# Altium schematic symbol library BY_Schlib1.SchLib: 21 symbols
Pins are listed as number, name and electrical type; pins without a type are passive.

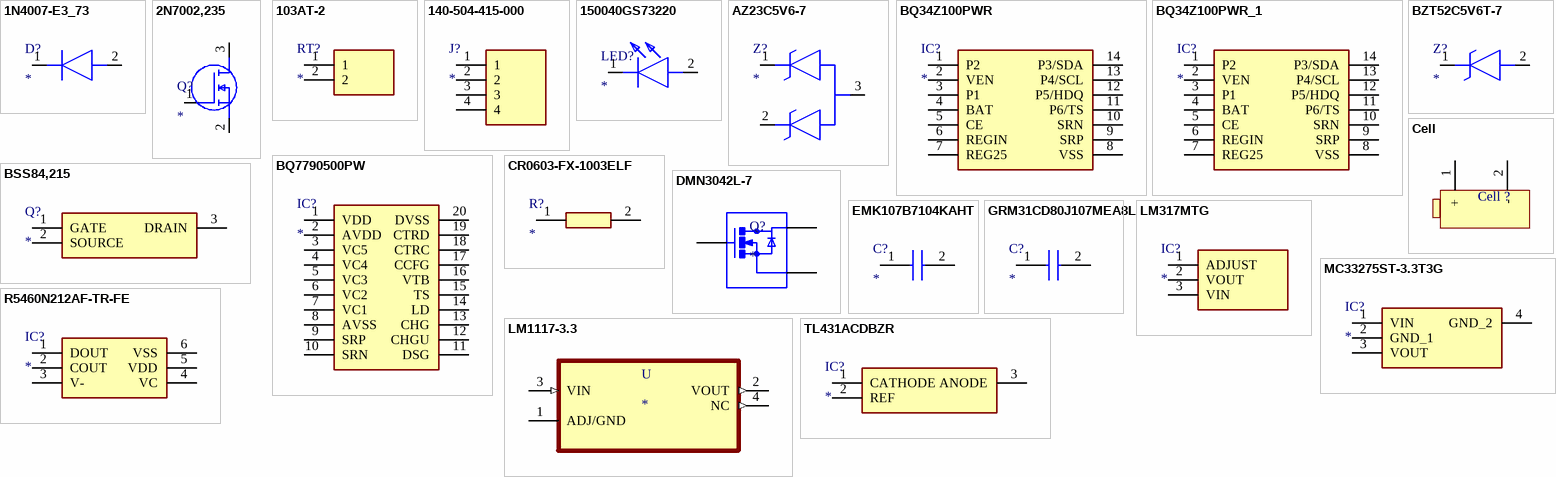
[diagram p0: symbols 1N4007-E3_73 to TL431ACDBZR]

## 1N4007-E3_73
designator D?
Diode; Manufacturer_Name: Vishay; Manufacturer_Part_Number: 1N4007-E3/73; Datasheet Link: https://mouser.componentsearchengine.com/Datasheets/2/1N4007-E3_73.pdf; Mouser Part Number: 625-1N4007-E3/73; Mouser Price/Stock: https://www.mouser.co.uk/ProductDetail/Vishay-General-Semiconductor/1N4007-E3-73?qs=N4vtoAxH%2FSqT3Ng3e4K0Gw%3D%3D; Arrow Part Number: 1N4007-E3/73; Arrow Price/Stock: https://www.arrow.com/en/products/1n4007-e373/vishay
footprint DIOAD1405W86L465D235
pins: 1 K, 2 A

## 2N7002,235
designator Q?
MOSFET (N-Channel); Manufacturer_Name: Nexperia; Manufacturer_Part_Number: 2N7002,235; Datasheet Link: https://assets.nexperia.com/documents/data-sheet/2N7002.pdf; Height: 1.1mm; Mouser Part Number: 771-2N7002235; Mouser Price/Stock: https://www.mouser.co.uk/ProductDetail/Nexperia/2N7002235?qs=AX3SRYwdf7Gv59FeQZ%2FkYw%3D%3D; Arrow Part Number: 2N7002,235; Arrow Price/Stock: https://www.arrow.com/en/products/2n7002235/nexperia
footprint SOT95P230X110-3N
pins: 1 G, 2 S, 3 D

## 103AT-2
designator RT?
Thermistor; Manufacturer_Name: Semitec; Manufacturer_Part_Number: 103AT-2; Datasheet Link: https://datasheet.datasheetarchive.com/originals/distributors/Datasheets-30/DSA-588185.pdf; Height: 8mm; Mouser Part Number: 954-103AT-2; Mouser Price/Stock: https://www.mouser.co.uk/ProductDetail/Semitec/103AT-2?qs=wgO0AD0o1vvcDzsKguD%252Bew%3D%3D
footprint 103AT2
pins: 1, 2

## 140-504-415-000
designator J?
Connector; Manufacturer_Name: EDAC; Manufacturer_Part_Number: 140-504-415-000; Datasheet Link: https://files.edac.net/edac/content/140/140-504-415-000%20-%20EDAC%20E-MATE%20(Pin%20Header)%20Connector.PDF; Height: 5.25mm; Mouser Part Number: 587-140-504-415-000; Mouser Price/Stock: https://www.mouser.co.uk/ProductDetail/EDAC/140-504-415-000?qs=zW32dvEIR3t2whP8kwSMKQ%3D%3D
footprint 140504415000
pins: 1, 2, 3, 4

## 150040GS73220
designator LED?
LED; Manufacturer_Name: Wurth Elektronik; Manufacturer_Part_Number: 150040GS73220; Datasheet Link: https://www.mouser.com/datasheet/2/445/150040GS73220-1714597.pdf; Height: 0.35mm; Mouser Part Number: 710-150040GS73220; Mouser Price/Stock: https://www.mouser.co.uk/ProductDetail/Wurth-Elektronik/150040GS73220?qs=u16ybLDytRZ9vktXLUK1Kg%3D%3D
footprint 150040GS73220
pins: 1 K, 2 A

## AZ23C5V6-7
designator Z?
Zener Diode; Manufacturer_Name: Diodes Inc.; Manufacturer_Part_Number: AZ23C5V6-7; Datasheet Link: https://www.diodes.com/assets/Datasheets/ds18003.pdf; Height: 1.1mm; Mouser Part Number: 621-AZ23C5V6; Mouser Price/Stock: https://www.mouser.co.uk/ProductDetail/Diodes-Incorporated/AZ23C5V6-7?qs=SSucg2PyLi7liuy0Pq8%2FiA%3D%3D
footprint SOT96P240X110-3N
pins: 1 CATHODE_1, 2 CATHODE_2, 3 COMMON_ANODE

## BQ34Z100PWR
designator IC?
Integrated Circuit; Manufacturer_Name: Texas Instruments; Manufacturer_Part_Number: BQ34Z100PWR; Datasheet Link: https://www.ti.com/lit/ds/symlink/bq34z100.pdf?HQS=dis-dk-null-digikeymode-dsf-pf-null-wwe&ts=1639563438358&ref_url=https%253A%252F%252Fwww.ti.com%252Fgeneral%252Fdocs%252Fsuppproductinfo.tsp%253FdistId%253D10%2526gotoUrl%253Dhttps%253A%252F%252Fwww.ti.co; Height: 1.2mm; Mouser Part Number: 595-BQ34Z100PWR; Mouser Price/Stock: https://www.mouser.co.uk/ProductDetail/Texas-Instruments/BQ34Z100PWR?qs=Zv8nmyeoaKtU157avFmCXg%3D%3D; Arrow Part Number: BQ34Z100PWR; Arrow Price/Stock: https://www.arrow.com/en/products/bq34z100pwr/texas-instruments
footprint SOP65P640X120-14N
pins: 1 P2, 2 VEN, 3 P1, 4 BAT, 5 CE, 6 REGIN, 7 REG25, 8 VSS, 9 SRP, 10 SRN, 11 P6/TS, 12 P5/HDQ, 13 P4/SCL, 14 P3/SDA

## BQ34Z100PWR_1
designator IC?
Integrated Circuit; Manufacturer_Name: Texas Instruments; Manufacturer_Part_Number: BQ34Z100PWR; Datasheet Link: https://www.ti.com/lit/ds/symlink/bq34z100.pdf?HQS=dis-dk-null-digikeymode-dsf-pf-null-wwe&ts=1639563438358&ref_url=https%253A%252F%252Fwww.ti.com%252Fgeneral%252Fdocs%252Fsuppproductinfo.tsp%253FdistId%253D10%2526gotoUrl%253Dhttps%253A%252F%252Fwww.ti.co; Height: 1.2mm; Mouser Part Number: 595-BQ34Z100PWR; Mouser Price/Stock: https://www.mouser.co.uk/ProductDetail/Texas-Instruments/BQ34Z100PWR?qs=Zv8nmyeoaKtU157avFmCXg%3D%3D; Arrow Part Number: BQ34Z100PWR; Arrow Price/Stock: https://www.arrow.com/en/products/bq34z100pwr/texas-instruments
footprint SOP65P640X120-14N
pins: 1 P2, 2 VEN, 3 P1, 4 BAT, 5 CE, 6 REGIN, 7 REG25, 8 VSS, 9 SRP, 10 SRN, 11 P6/TS, 12 P5/HDQ, 13 P4/SCL, 14 P3/SDA

## BQ7790500PW
designator IC?
Integrated Circuit; Manufacturer_Name: Texas Instruments; Manufacturer_Part_Number: BQ7790500PW; Datasheet Link: http://www.ti.com/lit/ds/symlink/bq77904.pdf; Height: 1.2mm; Mouser Part Number: 595-BQ7790500PW; Mouser Price/Stock: https://www.mouser.co.uk/ProductDetail/Texas-Instruments/BQ7790500PW?qs=osPbIpHqQ9USlyA577PxEQ%3D%3D; Arrow Part Number: BQ7790500PW; Arrow Price/Stock: https://www.arrow.com/en/products/bq7790500pw/texas-instruments
footprint SOP65P640X120-20N
pins: 1 VDD, 2 AVDD, 3 VC5, 4 VC4, 5 VC3, 6 VC2, 7 VC1, 8 AVSS, 9 SRP, 10 SRN, 11 DSG, 12 CHGU, 13 CHG, 14 LD, 15 TS, 16 VTB, 17 CCFG, 18 CTRC, 19 CTRD, 20 DVSS

## BSS84,215
designator Q?
Transistor; Manufacturer_Name: Nexperia; Manufacturer_Part_Number: BSS84,215; Datasheet Link: https://componentsearchengine.com/Datasheets/2/BSS84,215.pdf; Height: 1.1mm; Mouser Part Number: 771-BSS84-T/R; Mouser Price/Stock: https://www.mouser.co.uk/ProductDetail/Nexperia/BSS84215?qs=me8TqzrmIYUAnPU0lBnsXg%3D%3D; Arrow Part Number: BSS84,215; Arrow Price/Stock: https://www.arrow.com/en/products/bss84215/nexperia?region=nac
footprint SOT95P230X110-3N
pins: 1 GATE, 2 SOURCE, 3 DRAIN

## BZT52C5V6T-7
designator Z?
Zener Diode; Manufacturer_Name: Diodes Inc.; Manufacturer_Part_Number: BZT52C5V6T-7; Datasheet Link: https://www.mouser.com/datasheet/2/115/ds30502-1142513.pdf; Height: 0.65mm; Mouser Part Number: 621-BZT52C5V6T-7; Mouser Price/Stock: https://www.mouser.co.uk/ProductDetail/Diodes-Incorporated/BZT52C5V6T-7?qs=zLeapIUCO8Tm%252BIuaCPAdkQ%3D%3D; Arrow Part Number: BZT52C5V6T-7; Arrow Price/Stock: https://www.arrow.com/en/products/bzt52c5v6t-7/diodes-incorporated?region=nac
footprint SODFL1608X65N
pins: 1 K, 2 A

## Cell
designator Cell ?  (value not drawn)
Cell
footprint Cell
pins: 1 +, 2 -

## CR0603-FX-1003ELF
designator R?
Resistor; Manufacturer_Name: Bourns; Manufacturer_Part_Number: CR0603-FX-1003ELF; Datasheet Link: https://www.bourns.com/pdfs/chpreztr.pdf; Height: 0.55mm; Mouser Part Number: 652-CR0603-FX-103ELF; Mouser Price/Stock: https://www.mouser.co.uk/ProductDetail/Bourns/CR0603-FX-1003ELF?qs=K5ddiUFZPT49r0RoKWcKqg%3D%3D; Arrow Part Number: CR0603-FX-1003ELF; Arrow Price/Stock: https://www.arrow.com/en/products/cr0603-fx-1003elf/bourns?region=europe
footprint RESC1608X55N
pins: 1, 2

## DMN3042L-7
designator Q?
N-Channel 30V 5.8A (Ta) 720mW (Ta) Surface Mount SOT-23; MP: DMN3042L-7; MF: Diodes Inc.; Value: *; Package: SOT-23-3 Diodes Inc.; Check_prices: https://www.snapeda.com/parts/DMN3042L-7/Diodes%20Inc./view-part/827647/?ref=eda; SnapEDA_Link: https://www.snapeda.com/parts/DMN3042L-7/Diodes%20Inc./view-part/827647/?ref=snap; Digi-Key_Part_Number: DMN3042L-7DICT-ND
footprint SOT91P240X110-3N
pins: 1 GATE, 2 SOURCE, 3 DRAIN

## EMK107B7104KAHT
designator C?
Capacitor; Manufacturer_Name: TAIYO YUDEN; Manufacturer_Part_Number: EMK107B7104KAHT; Datasheet Link: https://componentsearchengine.com/Datasheets/2/EMK107B7104KAHT.pdf; Height: 0.9mm; Mouser Part Number: 963-EMK107B7104KAHT; Mouser Price/Stock: https://www.mouser.co.uk/ProductDetail/Taiyo-Yuden/EMK107B7104KAHT?qs=Va%252BXcMGJzEvYcymJV6GEGg%3D%3D
footprint CAPC1608X90N
pins: 1, 2

## GRM31CD80J107MEA8L
designator C?
Capacitor; Manufacturer_Name: Murata Electronics; Manufacturer_Part_Number: GRM31CD80J107MEA8L; Height: 1.8mm; Mouser Part Number: 81-GRM31CD80J107MA8L; Mouser Price/Stock: https://www.mouser.co.uk/ProductDetail/Murata-Electronics/GRM31CD80J107MEA8L?qs=DPoM0jnrROWnWfPYsqocbw%3D%3D
footprint CAPC3216X180N
pins: 1, 2

## LM317MTG
designator IC?
Integrated Circuit; Manufacturer_Name: onsemi; Manufacturer_Part_Number: LM317MTG; Datasheet Link: https://www.onsemi.com/pub/Collateral/LM317M-D.PDF; Height: 4.82mm; Mouser Part Number: 863-LM317MTG; Mouser Price/Stock: https://www.mouser.co.uk/ProductDetail/onsemi/LM317MTG?qs=2OtswVQKCOHbXYkL9fERIw%3D%3D; Arrow Part Number: LM317MTG; Arrow Price/Stock: https://www.arrow.com/en/products/lm317mtg/on-semiconductor?region=nac
footprint TO254P482X997X2018-3P
pins: 1 ADJUST, 2 VOUT, 3 VIN

## LM1117-3.3
designator U
Regulador de tensÃ£o linear IC 1 Output 800mA SOT-223-4; MP: LM1117-3.3; MF: Texas Instruments; Package: SOT-223-4 Texas Instruments; Price: None; Availability: Unavailable; SnapEDA_Link: https://www.snapeda.com/parts/LM1117-3.3/Texas%20Instruments/view-part/549181/?ref=snap; Value: *
footprint SOT230
pins: 1 ADJ/GND, 2 VOUT (out), 3 VIN (in), 4 NC (out)

## MC33275ST-3.3T3G
designator IC?
Integrated Circuit; Manufacturer_Name: onsemi; Manufacturer_Part_Number: MC33275ST-3.3T3G; Datasheet Link: http://www.onsemi.com/pub/Collateral/MC33275-D.PDF; Height: 1.75mm; Mouser Part Number: 863-MC33275ST-3.3T3G; Mouser Price/Stock: https://www.mouser.co.uk/ProductDetail/ON-Semiconductor/MC33275ST-33T3G?qs=dFKnUM%2FquJbQYa4LZ%2FVbxA%3D%3D; Arrow Part Number: MC33275ST-3.3T3G; Arrow Price/Stock: https://www.arrow.com/en/products/mc33275st-3.3t3g/on-semiconductor
footprint SOT230P700X175-4N
pins: 1 VIN, 2 GND_1, 3 VOUT, 4 GND_2

## R5460N212AF-TR-FE
designator IC?
Integrated Circuit; Manufacturer_Name: Ricoh; Manufacturer_Part_Number: R5460N212AF-TR-FE; Datasheet Link: https://eagle.componentsearchengine.com/Datasheets/1/R5460N212AF-TR-FE.pdf; Height: 1.4mm; Mouser Part Number: 848-R5460N212AF-TR; Mouser Price/Stock: https://www.mouser.co.uk/ProductDetail/Ricoh-Electronic-Devices-Company/R5460N212AF-TR-FE?qs=vLWxofP3U2zA%252BWVvFiMalQ%3D%3D
footprint SOT95P280X140-6N
pins: 1 DOUT, 2 COUT, 3 V-, 4 VC, 5 VDD, 6 VSS

## TL431ACDBZR
designator IC?
Integrated Circuit; Manufacturer_Name: Texas Instruments; Manufacturer_Part_Number: TL431ACDBZR; Datasheet Link: https://datasheet.datasheetarchive.com/originals/distributors/SFDatasheet-6/sf-000131849.pdf; Mouser Part Number: 595-TL431ACDBZR; Mouser Price/Stock: https://www.mouser.co.uk/ProductDetail/Texas-Instruments/TL431ACDBZR?qs=odmYgEirbwzMcBuFx%2Fo8hQ%3D%3D; Arrow Part Number: TL431ACDBZR; Arrow Price/Stock: https://www.arrow.com/en/products/tl431acdbzr/texas-instruments?region=nac
footprint SOT95P237X112-3N
pins: 1 CATHODE, 2 REF, 3 ANODE